# EAGLE library part ACS711 (library IGVC-Sensor)
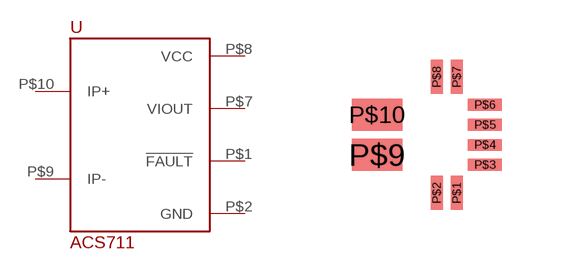
[diagram p0: symbol with the pads of POWERPAK_8X8L; footprint POWERPAK_8X8L]

Designator prefix -

## ACS711  [POWERPAK_8X8L]
P$1  !FAULT
P$2  GND
P$7  VIOUT
P$8  VCC
P$9  IP-
P$10  IP+

## Footprint POWERPAK_8X8L (pad centres in mm)
smd 0.3 x 0.85: P$1 -0.7,0; P$2 -1.2,0; P$7 -0.7,2.9; P$8 -1.2,2.9
smd 0.85 x 0.3: P$3 0,0.7; P$4 0,1.2; P$5 0,1.7; P$6 0,2.2
smd 1.27 x 0.8: P$9 -2.7,0.95; P$10 -2.7,1.95